# EAGLE library part MX25L25645GXDI-08G (library Memory)
IC FLASH 256MBIT SPI 24CSPBGA Manufacturer's datasheet <https://www.macronix.com/Lists/Datasheet/Attachments/7858/MX25L25645G,%203V,%20256Mb,%20v1.9.pdf>
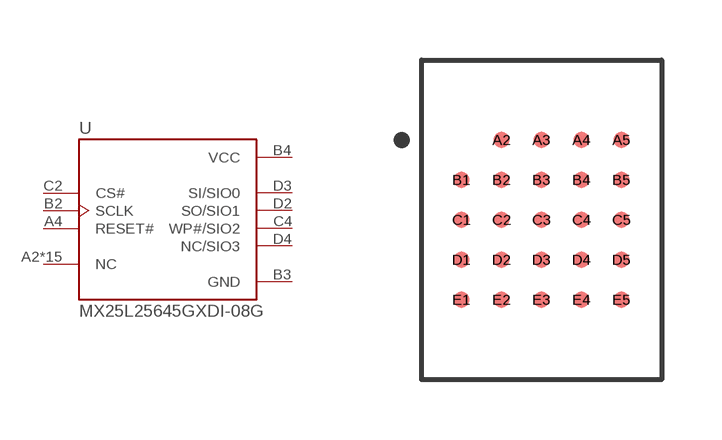
[diagram p16: symbol with the pads of CSPBGA24; footprint CSPBGA24]

Designator prefix U

## MX25L25645GXDI-08G (CREATED_BY: PCBLayout.com; DIGIKEY_PARTNO: 1092-1236-ND; MANUFACTURER: Macronix; MPN: MX25L25645GXDI-08G; PACKAGE: CSPBGA24)  [CSPBGA24]
A2  NC  nc
A3  NC  nc
A4  RESET#  in
A5  NC  nc
B1  NC  nc
B2  SCLK  in
B3  GND  pwr
B4  VCC  pwr
B5  NC  nc
C1  NC  nc
C2  CS#  in
C3  NC  nc
C4  WP#/SIO2
C5  NC  nc
D1  NC  nc
D2  SO/SIO1
D3  SI/SIO0
D4  NC/SIO3
D5  NC  nc
E1  NC  nc
E2  NC  nc
E3  NC  nc
E4  NC  nc
E5  NC  nc

## Footprint CSPBGA24 (pad centres in mm)
smd 0.4 x 0.4: A2 -1,2; A3 0,2; A4 1,2; A5 2,2; B1 -2,1; B2 -1,1; B3 0,1; B4 1,1; B5 2,1; C1 -2,0; C2 -1,0; C3 0,0; C4 1,0; C5 2,0; D1 -2,-1; D2 -1,-1; D3 0,-1; D4 1,-1; D5 2,-1; E1 -2,-2; E2 -1,-2; E3 0,-2; E4 1,-2; E5 2,-2